# Altium footprint library TRX-101 Rev19.PcbLib: 22 footprints (part 2 of 2)
Each footprint in its own frame and in the unit in brackets; x right, y up, seen from the top. Pads: shape width x height; smd on the part's side, far side on the other; paste and mask are expansions set on the pad; w line width, h text height; cw(c..) or ccw(c..) is an arc to the next point about the centre after c.
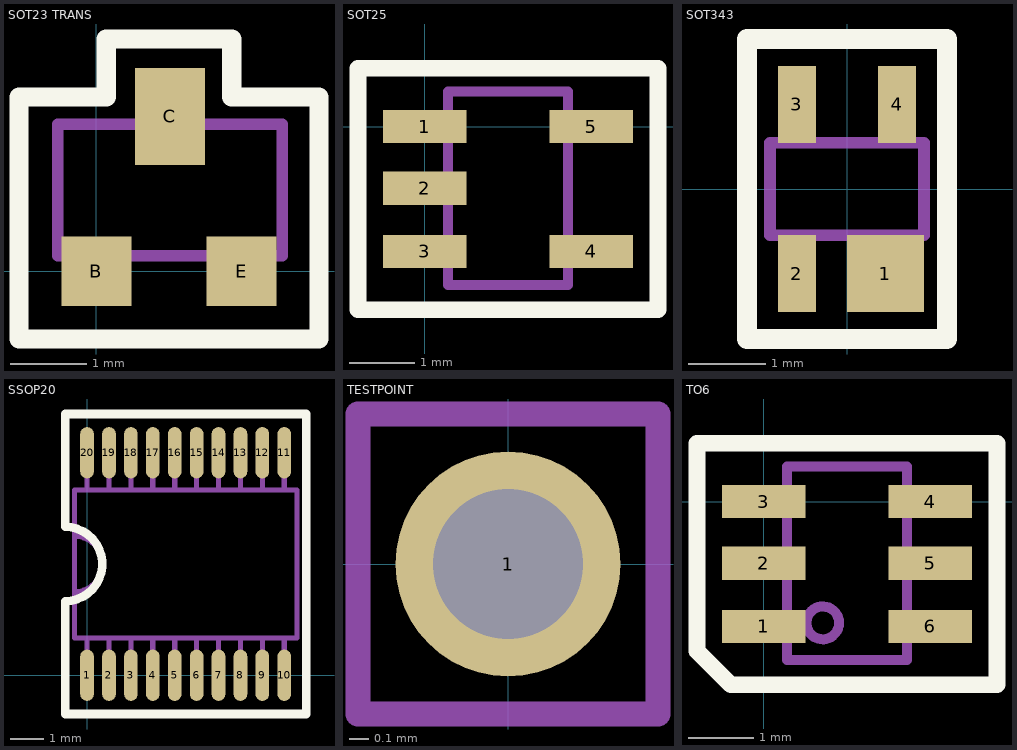
[diagram p1: the footprints below, top view; thin cyan lines are the x and y axes]

## SOT23 TRANS [mil]
pads (3):
  rect 36x36 smd: B(0,0) E(75,0)
  rect 36x50 smd: C(38,80)
Top Overlay:
  lines w10: -40,-35 115,-35 115,90 70,90 70,120 23,120 5,120 5,90 -40,90 -40,-35
Mechanical 1:
  lines w6: -10,8 -10,-8 10,-8 10,8 ; 30,76 30,94 46,94 46,76 ; 66,8 66,-8 84,-8 84,8 ; -20,8 96,8 96,76 -20,76 -20,8
Mechanical 8:
  text ".Designator" at -12.32,86.82 h19.68

## SOT25 [mil]
pads (5):
  rect 50x20 smd: 1(0,0) 2(0,-37) 3(0,-75) 4(100,-75) 5(100,0)
Top Overlay:
  lines w10: -40,-110 140,-110 140,35 -40,35 -40,-75 -40,-110
Mechanical 1:
  lines w6: 14,-79 -8,-79 -8,-71 12,-71 14,-69 ; 14,-41 -8,-41 -8,-33 14,-33 ; 14,-3 -8,-3 -8,5 14,5 ; 86,-79 108,-79 108,-71 86,-71 ; 86,-3 108,-3 108,5 86,5 ; 14,-95 14,21 86,21 86,-95 14,-95
Mechanical 8:
  text ".Designator" at 116.18,-56 h19.68

## SOT343 [mm]
pads (4):
  rect 1x1 smd: 1(0.5,-1.1)
  rect 0.5x1 smd: 2(-0.65,-1.1) 3(-0.65,1.1) 4(0.65,1.1)
Top Overlay:
  lines w0.254: -1.3,-1.95 -1.3,0 -1.3,1.95 0,1.95 1.3,1.95 1.3,0 1.3,-1.95 0,-1.95 -1.3,-1.95
Mechanical 1:
  lines w0.152: -0.8,-0.6 -0.8,-1.1 -0.5,-1.1 -0.5,-0.6 ; -0.8,0.6 -0.8,1.1 -0.5,1.1 -0.5,0.6 ; 0.5,-0.6 0.15,-0.6 0.15,-1.1 0.85,-1.1 0.85,-0.6 ; 0.5,0.6 0.5,1.1 0.8,1.1 0.8,0.6 ; -0.5,0.6 1,0.6 1,-0.6 -1,-0.6 -1,0.6 -0.5,0.6
Mechanical 8:
  text ".Designator" at -1.265,-0.229 h0.5

## SSOP20 [mil]
pads (20):
  oval 16x60 smd: 1(0,0) 2(25.59,0) 3(51.18,0) 4(76.77,0) 5(102.36,0) 6(127.95,0) 7(153.54,0) 8(179.13,0) 9(204.72,0) 10(230.31,0) 11(230.31,259.84) 12(204.72,259.84) 13(179.13,259.84) 14(153.54,259.84) 15(127.95,259.84) 16(102.36,259.84) 17(76.77,259.84) 18(51.18,259.84) 19(25.59,259.84) 20(0,259.84)
Top Overlay:
  lines w10: -25.59,-45.28 -25.59,86.57 ccw(c-25.59,129.92) -25.59,173.27 -25.59,305.12 39.37,305.12 255.91,305.12 255.91,129.92 255.91,-45.28 190.94,-45.28 -25.59,-45.28
Mechanical 1:
  lines w6: -14.76,97.44 ccw(c-14.76,129.92) -14.76,162.4 ; -14.76,129.92 -14.76,43.31 ; 0,0 0,43.31 ; 0,216.54 0,259.84 ; 25.59,0 25.59,43.31 ; 25.59,216.54 25.59,259.84 ; 51.18,0 51.18,43.31 ; 51.18,216.54 51.18,259.84 ; 76.77,0 76.77,43.31 ; 76.77,216.54 76.77,259.84 ; 102.36,0 102.36,43.31 ; 102.36,216.54 102.36,259.84 ; 127.95,0 127.95,43.31 ; 127.95,216.54 127.95,259.84 ; 153.54,0 153.54,43.31 ; 153.54,216.54 153.54,259.84 ; 179.13,0 179.13,43.31 ; 179.13,216.54 179.13,259.84 ; 204.72,0 204.72,43.31 ; 204.72,216.54 204.72,259.84 ; 230.31,0 230.31,43.31 ; 230.31,216.54 230.31,259.84 ; -14.76,43.31 245.08,43.31 245.08,216.54 -14.76,216.54 -14.76,43.31
Mechanical 8:
  text ".Designator" at 101,173.82 h19.68

## TESTPOINT [mil]
pads (1):
  round 45 hole 30: 1(0,0)
Mechanical 1:
  lines w4.92: -30,-30 -30,30 0,30 30,30 30,-30 -30,-30
Mechanical 8:
  text ".Designator" at 35,22 h19.68

## TO6 [mil]
pads (6):
  rect 50x20 smd: 1(0,-75) 2(0,-37) 3(0,0) 4(100,0) 5(100,-37) 6(100,-75)
Top Overlay:
  lines w10: -40,-75 -40,35 ; -40,35 -40,-89.69 -19.68,-110 140,-110 140,35 -40,35
Mechanical 1:
  circle w6: c35.43,-72.83 r9.84
  lines w6: 14,-79 -8,-79 -8,-71 12,-71 14,-69 ; 14,-41 -8,-41 -8,-33 14,-33 ; 14,-3 -8,-3 -8,5 14,5 ; 86,-79 108,-79 108,-71 86,-71 ; 86,-41 108,-41 108,-33 86,-33 ; 86,-3 108,-3 108,5 86,5 ; 14,-95 86,-95 86,21 14,21 14,-95
Mechanical 8:
  text ".Designator" at 44.82,-107 h19.68